# Altium footprint library Analog Devices Footprints.PcbLib: 248 footprints (part 16 of 16)
Each footprint in its own frame and in the unit in brackets; x right, y up, seen from the top. Pads: shape width x height; smd on the part's side, far side on the other; paste and mask are expansions set on the pad; w line width, h text height; cw(c..) or ccw(c..) is an arc to the next point about the centre after c.
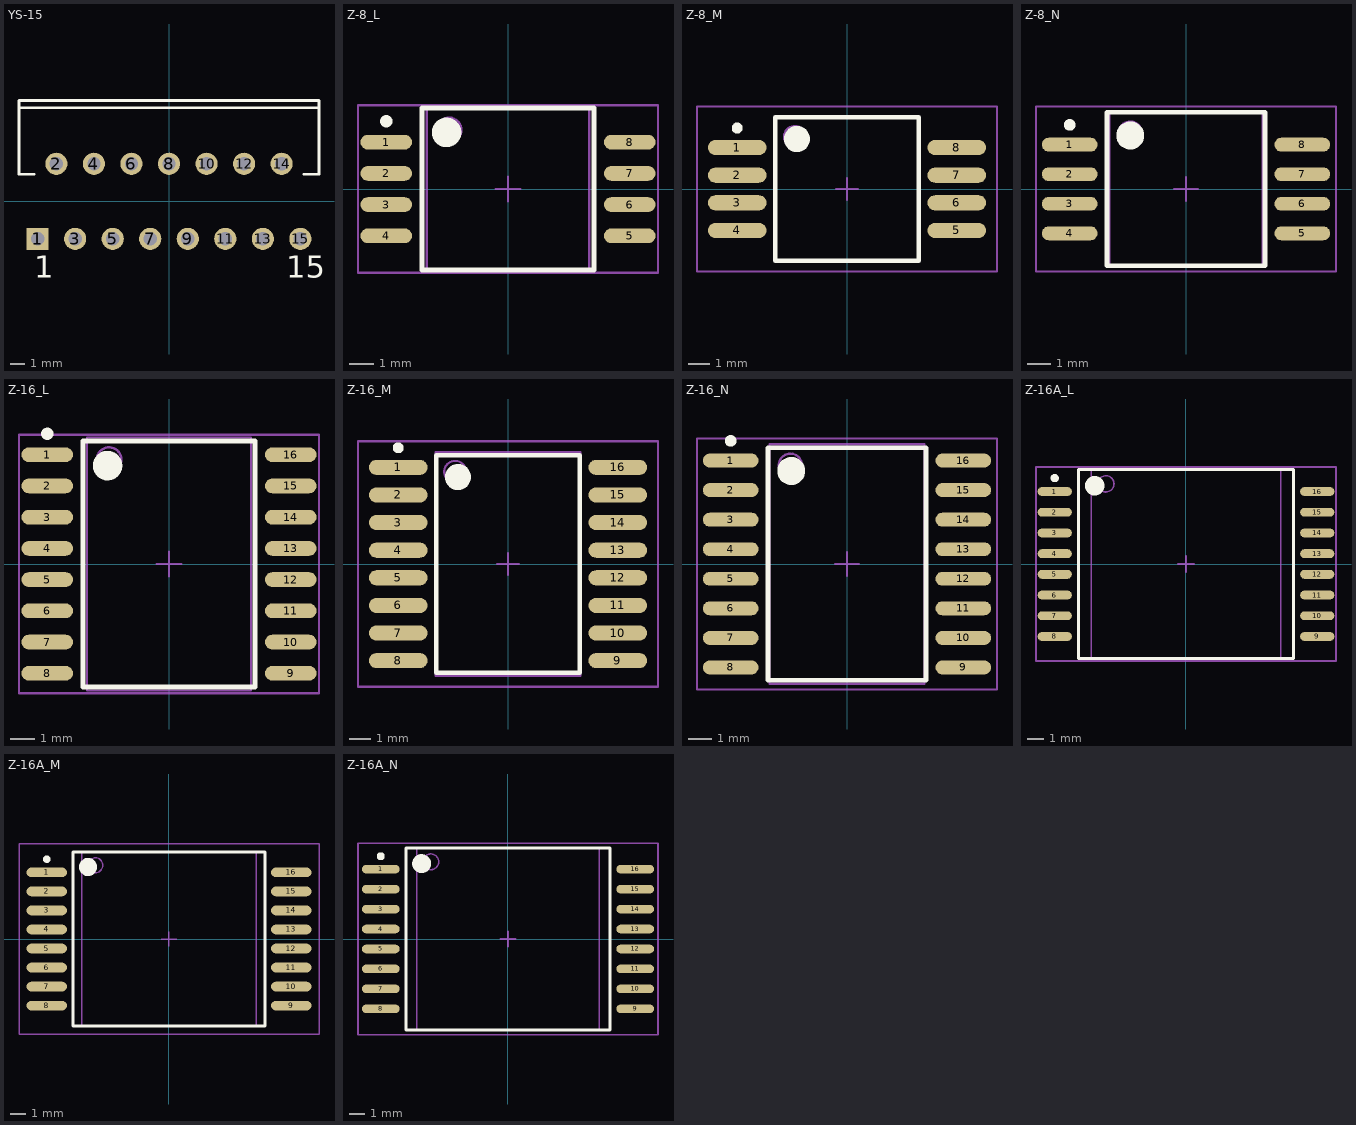
[diagram p15: the footprints below, top view; thin cyan lines are the x and y axes]

## YS-15 [mm] "TO, Thru-Hole, Vertical, Heatsink Mounted; 15 Bent Staggered Leads; Pitch 1.27 mm"
height 21
pads (15):
  rect 1.5x1.5 hole 0.9: 1(-8.89,-2.54)
  round 1.5 hole 0.9: 2(-7.62,2.54) 3(-6.35,-2.54) 4(-5.08,2.54) 5(-3.81,-2.54) 6(-2.54,2.54) 7(-1.27,-2.54) 8(0,2.54) 9(1.27,-2.54) 10(2.54,2.54) 11(3.81,-2.54) 12(5.08,2.54) 13(6.35,-2.54) 14(7.62,2.54) 15(8.89,-2.54)
Top Overlay:
  lines w0.2: -10.15,6.33 10.05,6.33 ; -9.144,1.83 -10.15,1.83 -10.15,6.83 10.15,6.83 10.15,1.83 9.144,1.83
  text "1" at -9.12,-5.165 h1.5
  text "15" at 7.95,-5.165 h1.5

## Z-8_L [mm] "8-Pin Small Outline Package 1.27 mm Pitch, IPC High Density"
height 2.49
pads (8):
  oval 2.1x0.6 smd: 1(-4.95,1.905) 2(-4.95,0.635) 3(-4.95,-0.635) 4(-4.95,-1.905) 5(4.95,-1.905) 6(4.95,-0.635) 7(4.95,0.635) 8(4.95,1.905)
Top Overlay:
  circle w0.25: c-4.95,2.755 r0.125
  circle w0.6: c-2.5,2.3 r0.3
  lines w0.2: -3.5,-3.3 -3.5,3.3 3.5,3.3 3.5,-3.3 -3.5,-3.3
Mechanical 13:
  circle w0.1: c-2.4,2.4 r0.5
  lines w0.1: -3.3,-3.3 -3.3,3.3 3.3,3.3 3.3,-3.3 -3.3,-3.3
Mechanical 15:
  lines w0.1: -0.5,0 0.5,0 ; 0,-0.5 0,0.5 ; -6.1,-3.4 -6.1,3.4 6.1,3.4 6.1,-3.4 -6.1,-3.4
3D body: height 2.49, standoff 0, extent -3.3,-3.3 3.3,3.3

## Z-8_M [mm] "8-Pin Small Outline Package 1.27 mm Pitch, IPC Low Density"
height 2.49
pads (8):
  oval 2.7x0.7 smd: 1(-5.05,1.905) 2(-5.05,0.635) 3(-5.05,-0.635) 4(-5.05,-1.905) 5(5.05,-1.905) 6(5.05,-0.635) 7(5.05,0.635) 8(5.05,1.905)
Top Overlay:
  circle w0.25: c-5.05,2.805 r0.125
  circle w0.6: c-2.3,2.3 r0.3
  lines w0.2: -3.3,-3.3 -3.3,3.3 3.3,3.3 3.3,-3.3 -3.3,-3.3
Mechanical 13:
  circle w0.1: c-2.4,2.4 r0.5
  lines w0.1: -3.3,-3.3 -3.3,3.3 3.3,3.3 3.3,-3.3 -3.3,-3.3
Mechanical 15:
  lines w0.1: -0.5,0 0.5,0 ; 0,-0.5 0,0.5 ; -6.9,-3.8 -6.9,3.8 6.9,3.8 6.9,-3.8 -6.9,-3.8
3D body: height 2.49, standoff 0, extent -3.3,-3.3 3.3,3.3

## Z-8_N [mm] "8-Pin Small Outline Package 1.27 mm Pitch, IPC Medium Density"
height 2.49
pads (8):
  oval 2.4x0.6 smd: 1(-5,1.905) 2(-5,0.635) 3(-5,-0.635) 4(-5,-1.905) 5(5,-1.905) 6(5,-0.635) 7(5,0.635) 8(5,1.905)
Top Overlay:
  circle w0.25: c-5,2.755 r0.125
  circle w0.6: c-2.4,2.3 r0.3
  lines w0.2: -3.4,-3.3 -3.4,3.3 3.4,3.3 3.4,-3.3 -3.4,-3.3
Mechanical 13:
  circle w0.1: c-2.4,2.4 r0.5
  lines w0.1: -3.3,-3.3 -3.3,3.3 3.3,3.3 3.3,-3.3 -3.3,-3.3
Mechanical 15:
  lines w0.1: -0.5,0 0.5,0 ; 0,-0.5 0,0.5 ; -6.45,-3.55 -6.45,3.55 6.45,3.55 6.45,-3.55 -6.45,-3.55
3D body: height 2.49, standoff 0, extent -3.3,-3.3 3.3,3.3

## Z-16_L [mm] "16-Pin Ceramic Leaded Chip Carrier 1.27 mm Pitch, IPC High Density"
height 2.62
pads (16):
  oval 2.1x0.6 smd: 1(-4.95,4.445) 2(-4.95,3.175) 3(-4.95,1.905) 4(-4.95,0.635) 5(-4.95,-0.635) 6(-4.95,-1.905) 7(-4.95,-3.175) 8(-4.95,-4.445) 9(4.95,-4.445) 10(4.95,-3.175) 11(4.95,-1.905) 12(4.95,-0.635) 13(4.95,0.635) 14(4.95,1.905) 15(4.95,3.175) 16(4.95,4.445)
Top Overlay:
  circle w0.25: c-4.95,5.295 r0.125
  circle w0.6: c-2.5,4 r0.3
  lines w0.2: -3.5,-5 -3.5,5 3.5,5 3.5,-5 -3.5,-5
Mechanical 13:
  circle w0.1: c-2.435,4.245 r0.5
  lines w0.1: -3.335,-5.145 -3.335,5.145 3.335,5.145 3.335,-5.145 -3.335,-5.145
Mechanical 15:
  lines w0.1: -0.5,0 0.5,0 ; 0,-0.5 0,0.5 ; -6.1,-5.25 -6.1,5.25 6.1,5.25 6.1,-5.25 -6.1,-5.25
3D body: height 2.62, standoff 0, extent -3.335,-5.145 3.335,5.145

## Z-16_M [mm] "16-Pin Ceramic Leaded Chip Carrier 1.27 mm Pitch, IPC Low Density"
height 2.62
pads (16):
  oval 2.7x0.7 smd: 1(-5.05,4.445) 2(-5.05,3.175) 3(-5.05,1.905) 4(-5.05,0.635) 5(-5.05,-0.635) 6(-5.05,-1.905) 7(-5.05,-3.175) 8(-5.05,-4.445) 9(5.05,-4.445) 10(5.05,-3.175) 11(5.05,-1.905) 12(5.05,-0.635) 13(5.05,0.635) 14(5.05,1.905) 15(5.05,3.175) 16(5.05,4.445)
Top Overlay:
  circle w0.25: c-5.05,5.345 r0.125
  circle w0.6: c-2.3,4 r0.3
  lines w0.2: -3.3,-5 -3.3,5 3.3,5 3.3,-5 -3.3,-5
Mechanical 13:
  circle w0.1: c-2.435,4.245 r0.5
  lines w0.1: -3.335,-5.145 -3.335,5.145 3.335,5.145 3.335,-5.145 -3.335,-5.145
Mechanical 15:
  lines w0.1: -0.5,0 0.5,0 ; 0,-0.5 0,0.5 ; -6.9,-5.65 -6.9,5.65 6.9,5.65 6.9,-5.65 -6.9,-5.65
3D body: height 2.62, standoff 0, extent -3.335,-5.145 3.335,5.145

## Z-16_N [mm] "16-Pin Ceramic Leaded Chip Carrier 1.27 mm Pitch, IPC Medium Density"
height 2.62
pads (16):
  oval 2.4x0.6 smd: 1(-5,4.445) 2(-5,3.175) 3(-5,1.905) 4(-5,0.635) 5(-5,-0.635) 6(-5,-1.905) 7(-5,-3.175) 8(-5,-4.445) 9(5,-4.445) 10(5,-3.175) 11(5,-1.905) 12(5,-0.635) 13(5,0.635) 14(5,1.905) 15(5,3.175) 16(5,4.445)
Top Overlay:
  circle w0.25: c-5,5.295 r0.125
  circle w0.6: c-2.4,4 r0.3
  lines w0.2: -3.4,-5 -3.4,5 3.4,5 3.4,-5 -3.4,-5
Mechanical 13:
  circle w0.1: c-2.435,4.245 r0.5
  lines w0.1: -3.335,-5.145 -3.335,5.145 3.335,5.145 3.335,-5.145 -3.335,-5.145
Mechanical 15:
  lines w0.1: -0.5,0 0.5,0 ; 0,-0.5 0,0.5 ; -6.45,-5.4 -6.45,5.4 6.45,5.4 6.45,-5.4 -6.45,-5.4
3D body: height 2.62, standoff 0, extent -3.335,-5.145 3.335,5.145

## Z-16A_L [mm] "16-Pin Ceramic Leaded Chip Carrier 1.27 mm Pitch, IPC High Density"
height 3.38
pads (16):
  oval 2.1x0.55 smd: 1(-8.05,4.445) 2(-8.05,3.175) 3(-8.05,1.905) 4(-8.05,0.635) 5(-8.05,-0.635) 6(-8.05,-1.905) 7(-8.05,-3.175) 8(-8.05,-4.445) 9(8.05,-4.445) 10(8.05,-3.175) 11(8.05,-1.905) 12(8.05,-0.635) 13(8.05,0.635) 14(8.05,1.905) 15(8.05,3.175) 16(8.05,4.445)
Top Overlay:
  circle w0.6: c-5.6,4.8 r0.3
  circle w0.25: c-8.05,5.27 r0.125
  lines w0.2: -6.6,-5.8 6.6,-5.8 6.6,5.8 -6.6,5.8 -6.6,-5.8
Mechanical 13:
  circle w0.1: c-4.915,4.915 r0.5
  lines w0.1: -5.815,-5.815 5.815,-5.815 5.815,5.815 -5.815,5.815 -5.815,-5.815
Mechanical 15:
  lines w0.1: -0.5,0 0.5,0 ; 0,-0.5 0,0.5 ; -9.2,-5.95 9.2,-5.95 9.2,5.95 -9.2,5.95 -9.2,-5.95
3D body: height 3.38, standoff 0, extent -5.815,-5.815 5.815,5.815

## Z-16A_M [mm] "16-Pin Ceramic Leaded Chip Carrier 1.27 mm Pitch, IPC Low Density"
height 3.38
pads (16):
  oval 2.7x0.65 smd: 1(-8.15,4.445) 2(-8.15,3.175) 3(-8.15,1.905) 4(-8.15,0.635) 5(-8.15,-0.635) 6(-8.15,-1.905) 7(-8.15,-3.175) 8(-8.15,-4.445) 9(8.15,-4.445) 10(8.15,-3.175) 11(8.15,-1.905) 12(8.15,-0.635) 13(8.15,0.635) 14(8.15,1.905) 15(8.15,3.175) 16(8.15,4.445)
Top Overlay:
  circle w0.6: c-5.4,4.8 r0.3
  circle w0.25: c-8.15,5.32 r0.125
  lines w0.2: -6.4,-5.8 6.4,-5.8 6.4,5.8 -6.4,5.8 -6.4,-5.8
Mechanical 13:
  circle w0.1: c-4.915,4.915 r0.5
  lines w0.1: -5.815,-5.815 5.815,-5.815 5.815,5.815 -5.815,5.815 -5.815,-5.815
Mechanical 15:
  lines w0.1: -0.5,0 0.5,0 ; 0,-0.5 0,0.5 ; -10,-6.35 10,-6.35 10,6.35 -10,6.35 -10,-6.35
3D body: height 3.38, standoff 0, extent -5.815,-5.815 5.815,5.815

## Z-16A_N [mm] "16-Pin Ceramic Leaded Chip Carrier 1.27 mm Pitch, IPC Medium Density"
height 3.38
pads (16):
  oval 2.4x0.55 smd: 1(-8.1,4.445) 2(-8.1,3.175) 3(-8.1,1.905) 4(-8.1,0.635) 5(-8.1,-0.635) 6(-8.1,-1.905) 7(-8.1,-3.175) 8(-8.1,-4.445) 9(8.1,-4.445) 10(8.1,-3.175) 11(8.1,-1.905) 12(8.1,-0.635) 13(8.1,0.635) 14(8.1,1.905) 15(8.1,3.175) 16(8.1,4.445)
Top Overlay:
  circle w0.6: c-5.5,4.8 r0.3
  circle w0.25: c-8.1,5.27 r0.125
  lines w0.2: -6.5,-5.8 6.5,-5.8 6.5,5.8 -6.5,5.8 -6.5,-5.8
Mechanical 13:
  circle w0.1: c-4.915,4.915 r0.5
  lines w0.1: -5.815,-5.815 5.815,-5.815 5.815,5.815 -5.815,5.815 -5.815,-5.815
Mechanical 15:
  lines w0.1: -0.5,0 0.5,0 ; 0,-0.5 0,0.5 ; -9.55,-6.1 9.55,-6.1 9.55,6.1 -9.55,6.1 -9.55,-6.1
3D body: height 3.38, standoff 0, extent -5.815,-5.815 5.815,5.815